# Altium integrated library 3x3_mm.IntLib: 1 symbol
Pins are listed as number, name and electrical type; pins without a type are passive.

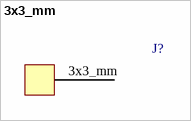
[diagram p0: symbol 3x3_mm]

## 3x3_mm
designator J?
footprint 3x3_mm
pins: 3x3_mm (power)